# Altium footprint library Traco Power.PcbLib: 4 footprints
Each footprint in its own frame and in the unit in brackets; x right, y up, seen from the top. Pads: shape width x height; smd on the part's side, far side on the other; paste and mask are expansions set on the pad; w line width, h text height; cw(c..) or ccw(c..) is an arc to the next point about the centre after c.
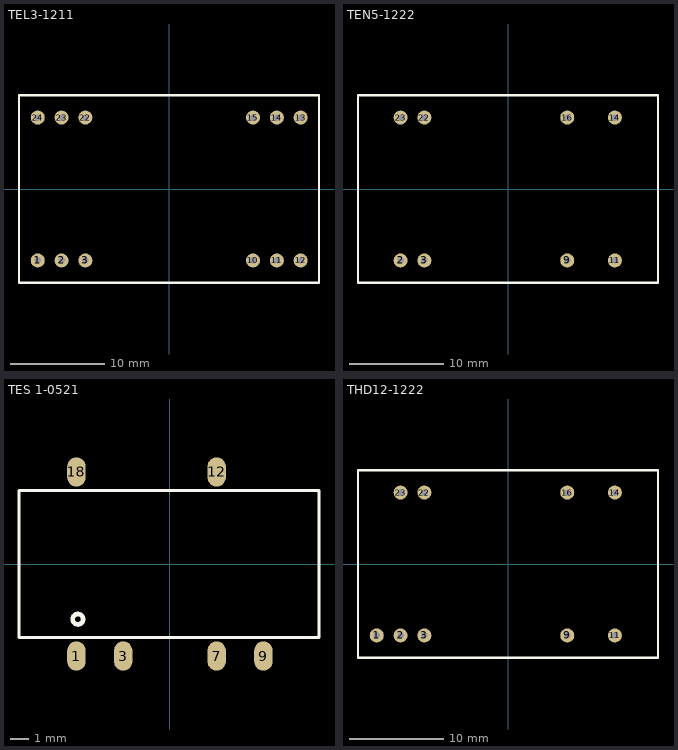
[diagram p0: the footprints below, top view; thin cyan lines are the x and y axes]

## TEL3-1211 [mm] "DC/DC"
height 10.2
pads (12):
  round 1.5 hole 0.7: 1(-14,-7.62) 2(-11.46,-7.62) 3(-8.92,-7.62) 10(8.96,-7.62) 11(11.5,-7.62) 12(14.04,-7.62) 13(14.04,7.62) 14(11.5,7.62) 15(8.96,7.62) 22(-8.92,7.62) 23(-11.46,7.62) 24(-14,7.62)
Top Overlay:
  lines w0.254: -16,-10 -16,10 16,10 16,-10 -16,-10
3D body: height 10.2, standoff 0, extent -16,-10 16,10

## TEN5-1222 [mm] "DC/DC"
height 10
pads (8):
  round 1.5 hole 0.7: 2(-11.46,-7.62) 3(-8.92,-7.62) 9(6.32,-7.62) 11(11.4,-7.62) 14(11.4,7.62) 16(6.32,7.62) 22(-8.92,7.62) 23(-11.46,7.62)
Top Overlay:
  lines w0.254: -16,-10 -16,10 16,10 16,-10 -16,-10
3D body: height 10, standoff 0, extent -16,-10 16,10

## TES 1-0521 [mm] "TES 1-0521"
height 7
pads (6):
  oval 1x1.6 smd: 1(-5.08,-5) 3(-2.54,-5) 7(2.54,-5) 9(5.08,-5) 12(2.54,5) 18(-5.08,5)
Top Overlay:
  circle w0.254: c-5,-3 r0.283
  lines w0.15: -8.2,-4 8.1,-4 8.1,4 -8.2,4 -8.2,-4
3D body: height 7, standoff 0, extent -8.2,-4 8.1,4

## THD12-1222 [mm] "DC/DC"
height 10.2
pads (9):
  round 1.5 hole 0.7: 1(-14,-7.62) 2(-11.46,-7.62) 3(-8.92,-7.62) 9(6.32,-7.62) 11(11.4,-7.62) 14(11.4,7.62) 16(6.32,7.62) 22(-8.92,7.62) 23(-11.46,7.62)
Top Overlay:
  lines w0.254: -16,-10 16,-10 16,10 -16,10 -16,-10
3D body: height 10, standoff 0, extent -16,-10 16,10